# Altium footprint library PCB - POWER INDUCTORS - ABRACON ASPIAIG-F1040.PcbLib: 1 footprints
Each footprint in its own frame and in the unit in brackets; x right, y up, seen from the top. Pads: shape width x height; smd on the part's side, far side on the other; paste and mask are expansions set on the pad; w line width, h text height; cw(c..) or ccw(c..) is an arc to the next point about the centre after c.
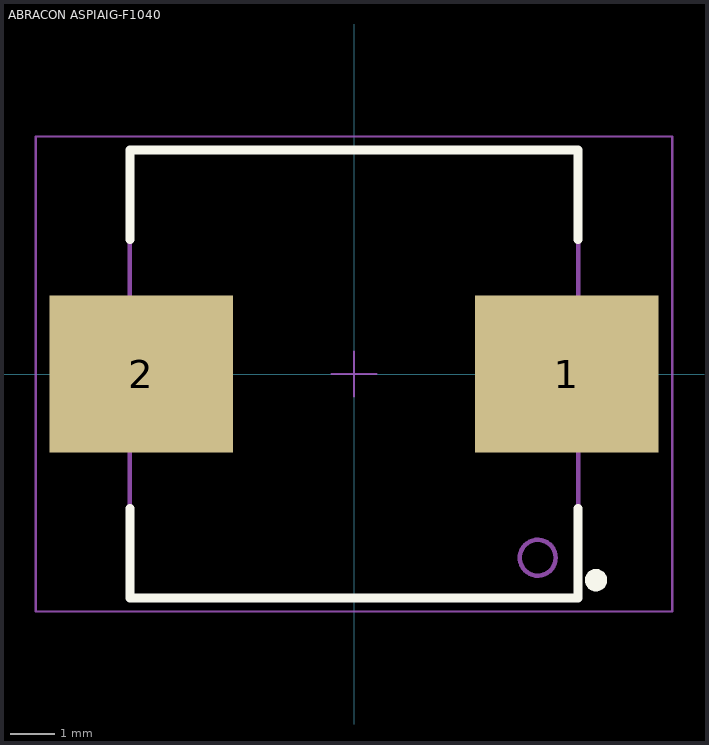
[diagram p0: the footprint, top view; thin cyan lines are the x and y axes]

## ABRACON ASPIAIG-F1040 [mm] "SMD Power Inductor, 2-Leads, body 10x10mm"
height 3.8
pads (2):
  rect 4.1x3.5 smd: 1(4.75,0) 2(-4.75,0)
Top Overlay:
  circle w0.25: c5.4,-4.6 r0.125
  lines w0.2: -5,-3 -5,-5 5,-5 5,-3 ; -5,3 -5,5 5,5 5,3
Top 3D Body:
  circle w0.1: c4.1,-4.1 r0.4
  lines w0.1: -5,-5 5,-5 5,5 -5,5 -5,-5
Top Component Outline:
  circle w0.1: c4.1,-4.1 r0.4
  lines w0.1: -5,-5 5,-5 5,5 -5,5 -5,-5
Top Courtyard:
  lines w0.05: -0.5,0 0.5,0 ; 0,-0.5 0,0.5 ; -7.1,-5.3 7.1,-5.3 7.1,5.3 -7.1,5.3 -7.1,-5.3
3D body "ABRACON ASPIAIG-F1040.step": height 3.8, standoff 0, extent -5.5,-5 5.5,5